# EAGLE library part SY100EP16UZG (library Micrel)
2.5/3.3V Precision ECl Diffrencial Receiver/Driver
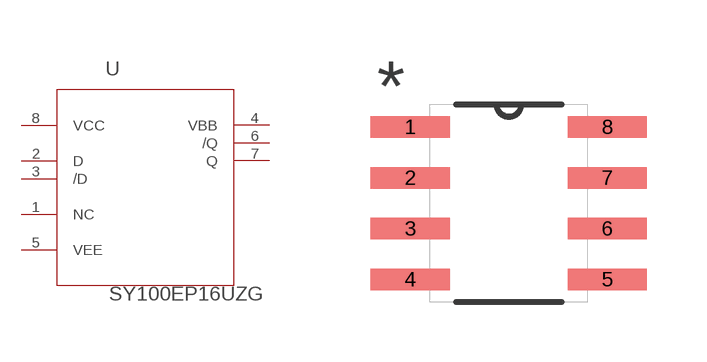
[diagram p14: symbol with the pads of SOIC127P600X173-8N; footprint SOIC127P600X173-8N]

Designator prefix U

## SY100EP16UZG (MPN: SY100EP16UZG; OC_FARNELL: 1864794; OC_NEWARK: 27T5915; PACKAGE: SOIC-8; SUPPLIER: MICRELSEMICONDUCTOR)  [SOIC127P600X173-8N]
1  NC  nc
2  D  in
3  /D  in
4  VBB  pwr
5  VEE  pas
6  /Q  out
7  Q  out
8  VCC  pwr

## Footprint SOIC127P600X173-8N (pad centres in mm)
smd 1.981 x 0.533: 1 -2.464,1.905; 2 -2.464,0.635; 3 -2.464,-0.635; 4 -2.464,-1.905; 5 2.464,-1.905; 6 2.464,-0.635; 7 2.464,0.635; 8 2.464,1.905